# EAGLE library part STM8S_MIN_DEV_BOARD (library ali_modules)
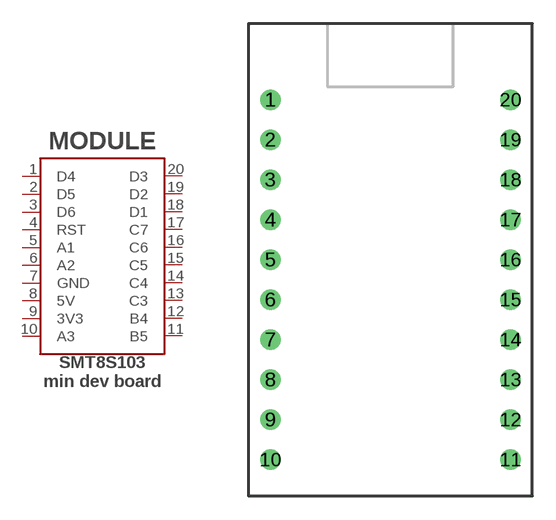
[diagram p23: symbol with the pads of STM8_MIN_DEV_BOARD; footprint STM8_MIN_DEV_BOARD]

Designator prefix MODULE

## STM8S_MIN_DEV_BOARD  [STM8_MIN_DEV_BOARD]
1  D4
2  D5
3  D6
4  RST
5  A1
6  A2
7  GND
8  5V
9  3V3
10  A3
11  B5
12  B4
13  C3
14  C4
15  C5
16  C6
17  C7
18  D1
19  D2
20  D3

## Footprint STM8_MIN_DEV_BOARD (pad centres in mm)
drill 0.8: 1 -7.62,10.16; 2 -7.62,7.62; 3 -7.62,5.08; 4 -7.62,2.54; 5 -7.62,0; 6 -7.62,-2.54; 7 -7.62,-5.08; 8 -7.62,-7.62; 9 -7.62,-10.16; 10 -7.62,-12.7; 11 7.62,-12.7; 12 7.62,-10.16; 13 7.62,-7.62; 14 7.62,-5.08; 15 7.62,-2.54; 16 7.62,0; 17 7.62,2.54; 18 7.62,5.08; 19 7.62,7.62; 20 7.62,10.16